# EAGLE library part NSJ8HC (library con_neutrik_ag__Jack6,35)
Mono dual jack, full nose Mounting screw included The 1/4" stacking jack features highest board packing density as two jacks are in a single footprint and as they fit in 1 RU.
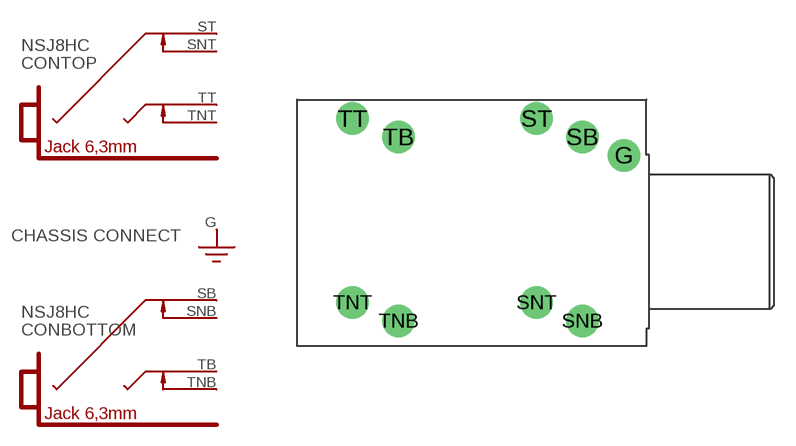
[diagram p14: symbol with the pads of NSJ8HC; footprint NSJ8HC]

Designator prefix CON; gates TOP=N*J4** BOTTOM=N*J4** G$3=CASSIS_CONNECT

## NSJ8HC  [NSJ8HC]
G  G$3:G  pas
SB  BOTTOM:S  pas
SNB  BOTTOM:SN  pas
SNT  TOP:SN  pas
ST  TOP:S  pas
TB  BOTTOM:T  pas
TNB  BOTTOM:TN  pas
TNT  TOP:TN  pas
TT  TOP:T  pas

## Footprint NSJ8HC (pad centres in mm)
drill 1.5 round: G -1.73,5.96; SB -4.61,7.23; SNB -4.61,-5.47; SNT -7.78,-4.2; ST -7.78,8.5; TB -17.3,7.23; TNB -17.3,-5.47; TNT -20.48,-4.2; TT -20.48,8.5